# EAGLE library part ICSP (library 08_CONECTOR)
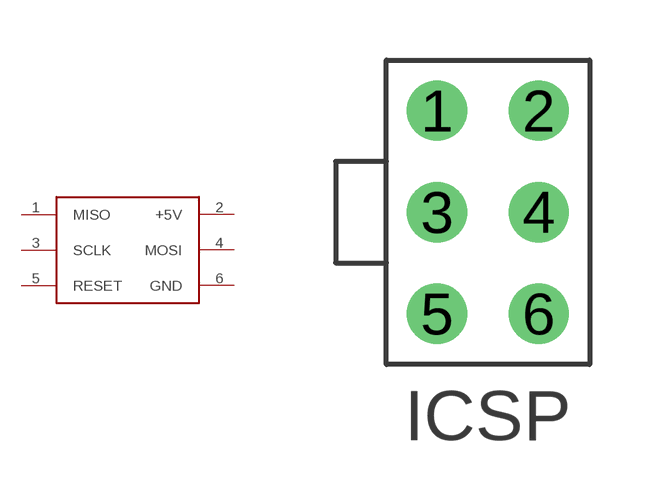
[diagram p10: symbol with the pads of ICSP; footprint ICSP]

Designator prefix -

## ICSP  [ICSP]
1  MISO
2  +5V
3  SCLK
4  MOSI
5  RESET
6  GND

## Footprint ICSP (pad centres in mm)
drill 1 pad 1.5: 1 -1.27,2.54; 2 1.27,2.54; 3 -1.27,0; 4 1.27,0; 5 -1.27,-2.54; 6 1.27,-2.54